# Altium schematic symbol library 296-21569-1-ND.SchLib: 1 symbol
Pins are listed as number, name and electrical type; pins without a type are passive.

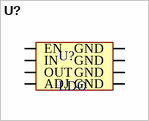
[diagram p0: symbol U?]

## U?
designator U?, comment LDO
footprint SOIC127P600X170-8N (SOIC, 8-Leads, Body 5.00x3.90mm, Pitch 1.27mm, IPC Medium Density)
pins: ADJ/BYP ADJ, EN, GND, GND, GND, GND, IN, OUT